# EAGLE library part MS6205-CONNECTOR (library MS6205_Display)
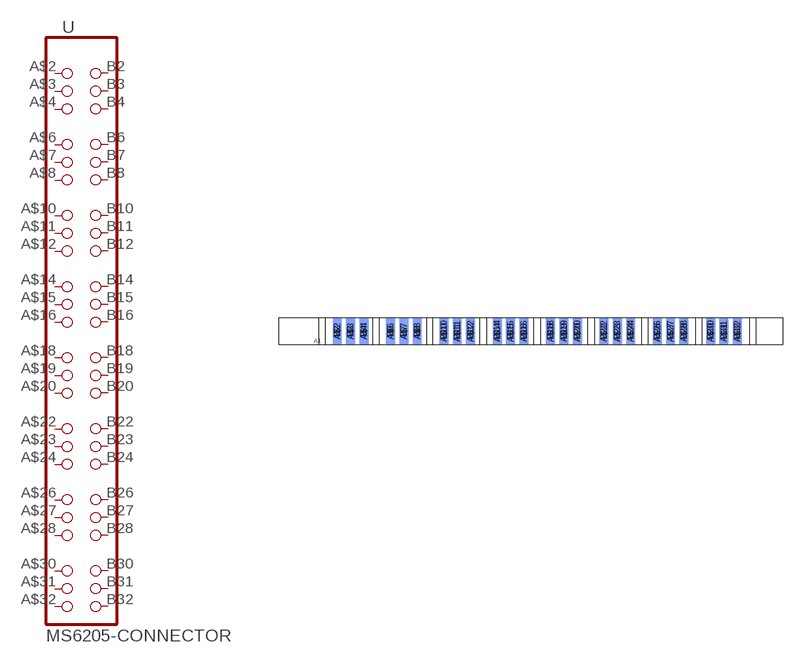
[diagram p0: symbol with the pads of MS6205_CONNECTOR_SMD; footprint MS6205_CONNECTOR_SMD]

Designator prefix -

## MS6205-CONNECTOR  [MS6205_CONNECTOR_SMD]
A$2  A2  pas
A$3  A3  pas
A$4  A4  pas
A$6  A6  pas
A$7  A7  pas
A$8  A8  pas
A$10  A10  pas
A$11  A11  pas
A$12  A12  pas
A$14  A14  pas
A$15  A15  pas
A$16  A16  pas
A$18  A18  pas
A$19  A19  pas
A$20  A20  pas
A$22  A22  pas
A$23  A23  pas
A$24  A24  pas
A$26  A26  pas
A$27  A27  pas
A$28  A28  pas
A$30  A30  pas
A$31  A31  pas
A$32  A32  pas
B2  B2  pas
B3  B3  pas
B4  B4  pas
B6  B6  pas
B7  B7  pas
B8  B8  pas
B10  B10  pas
B11  B11  pas
B12  B12  pas
B14  B14  pas
B15  B15  pas
B16  B16  pas
B18  B18  pas
B19  B19  pas
B20  B20  pas
B22  B22  pas
B23  B23  pas
B24  B24  pas
B26  B26  pas
B27  B27  pas
B28  B28  pas
B30  B30  pas
B31  B31  pas
B32  B32  pas

## Footprint MS6205_CONNECTOR_SMD (pad centres in mm)
smd 1.676 x 5.08: A$2 11.151,2.54; A$3 13.665,2.54; A$4 16.18,2.54; A$6 21.209,2.54; A$7 23.724,2.54; A$8 26.238,2.54; A$10 31.267,2.54; A$11 33.782,2.54; A$12 36.297,2.54; A$14 41.326,2.54; A$15 43.84,2.54; A$16 46.355,2.54; A$18 51.384,2.54; A$19 53.899,2.54; A$20 56.413,2.54; A$22 61.443,2.54; A$23 63.957,2.54; A$24 66.472,2.54; A$26 71.501,2.54; A$27 74.016,2.54; A$28 76.53,2.54; A$30 81.559,2.54; A$31 84.074,2.54; A$32 86.589,2.54
smd 1.676 x 5.08 bottom: B2 11.151,2.54; B3 13.665,2.54; B4 16.18,2.54; B6 21.209,2.54; B7 23.724,2.54; B8 26.238,2.54; B10 31.267,2.54; B11 33.782,2.54; B12 36.297,2.54; B14 41.326,2.54; B15 43.84,2.54; B16 46.355,2.54; B18 51.384,2.54; B19 53.899,2.54; B20 56.413,2.54; B22 61.443,2.54; B23 63.957,2.54; B24 66.472,2.54; B26 71.501,2.54; B27 74.016,2.54; B28 76.53,2.54; B30 81.559,2.54; B31 84.074,2.54; B32 86.589,2.54